# EAGLE library part VL53L0X (library VL53L0X)
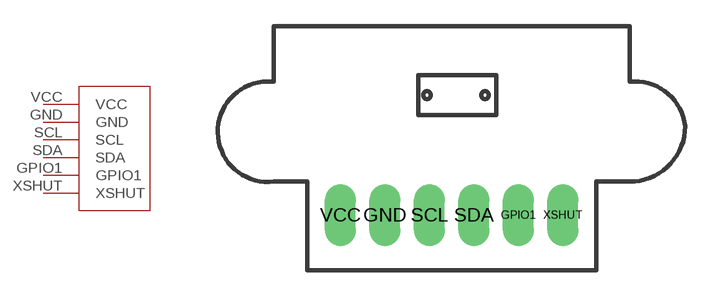
[diagram p0: symbol with the pads of CJVL53L0X; footprint CJVL53L0X]

Designator prefix -

## VL53L0X  [CJVL53L0X]
GND  GND
GPIO1  GPIO1
SCL  SCL
SDA  SDA
VCC  VCC
XSHUT  XSHUT

## Footprint CJVL53L0X (pad centres in mm)
drill 0.8 pad 1.778 long: GND -3.81,-0.635; GPIO1 3.81,-0.635; SCL -1.27,-0.635; SDA 1.27,-0.635; VCC -6.35,-0.635; XSHUT 6.35,-0.635